# Altium schematic symbol library OPA172IDR.SchLib: 1 symbol
Pins are listed as number, name and electrical type; pins without a type are passive.

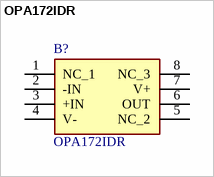
[diagram p0: symbol OPA172IDR]

## OPA172IDR
designator B?
36-V, Single-Supply, 10-MHz, Rail-to-Rail Output, Operational Amplifier; Manufacturer_Name: Texas Instruments; Geometry.Height: 1.75mm; Farnell Part Number: *; Farnell Price/Stock: *; Manufacturer_Part_Number: OPA172IDR; Datasheet Link: http://www.ti.com/lit/gpn/opa172
footprint SOIC127P600X175-8N
pins: 1 NC_1, 2 -IN, 3 +IN, 4 V-, 5 NC_2, 6 OUT, 7 V+, 8 NC_3